# EAGLE library part TTGO_DISP (library TTGO_LCD_DISP)
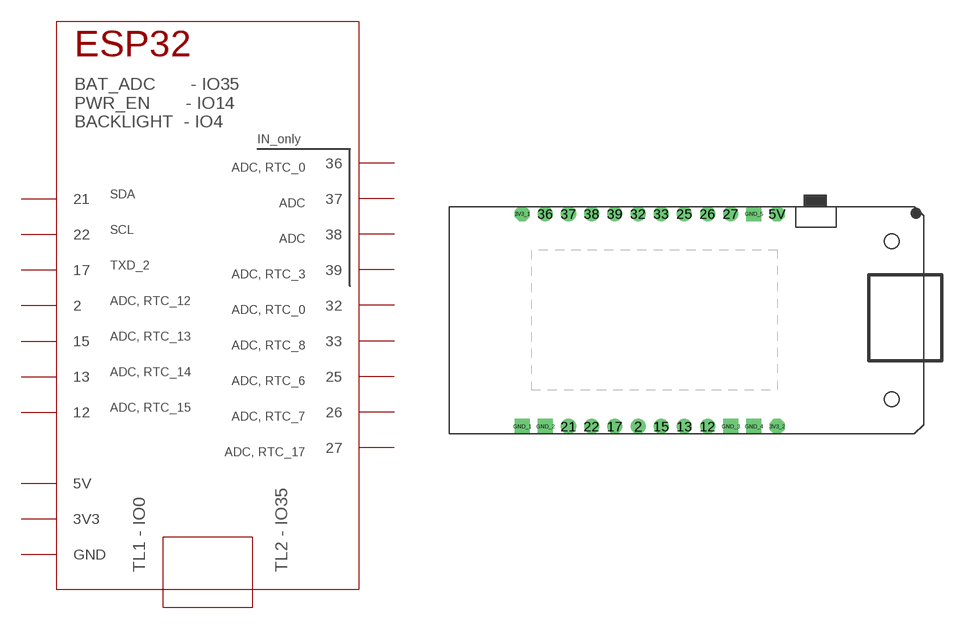
[diagram p0: symbol with the pads of TTGO_DISP_DEFAULT; footprint TTGO_DISP_DEFAULT]

Designator prefix IC

## TTGO_DISP (HEIGHT: 11)  [TTGO_DISP_DEFAULT]
2  2
3V3_1  3V3
3V3_2  3V3
5V  5V
12  12
13  13
15  15
17  17
21  21
22  22
25  25
26  26
27  27
32  32
33  33
36  36
37  37
38  38
39  39
GND_1  GND
GND_2  GND
GND_3  GND
GND_4  GND
GND_5  GND

## Footprint TTGO_DISP_DEFAULT (pad centres in mm)
drill 1.1: 2 12.7,0; 12 20.32,0; 13 17.78,0; 15 15.24,0; 17 10.16,0; 21 5.08,0; 22 7.62,0; 25 17.78,23.3; 26 20.32,23.3; 27 22.86,23.3; 32 12.7,23.3; 33 15.24,23.3; 36 2.54,23.3; 37 5.08,23.3; 38 7.62,23.3; 39 10.16,23.3
drill 1.1 octagon: 3V3_1 0,23.3; 3V3_2 27.94,0; 5V 27.94,23.3
drill 1.1 square: GND_1 0,0; GND_2 2.54,0; GND_3 22.86,0; GND_4 25.4,0; GND_5 25.4,23.3